# Altium schematic symbol library STM8S103F3P6.SchLib: 2 symbols
Pins are listed as number, name and electrical type; pins without a type are passive.

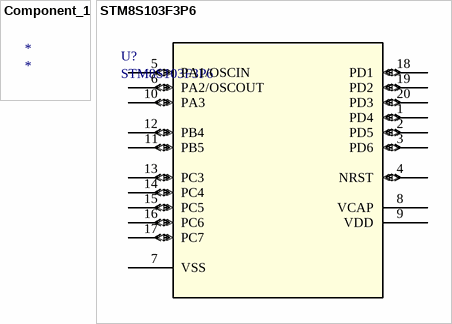
[diagram p0: symbols Component_1 to STM8S103F3P6]

## Component_1
designator *

## STM8S103F3P6
designator U?
No Description Available; Mfr_Name: STMicroelectronics; Copyright: Copyright (C) 2022 Ultra Librarian. All rights reserved.; Manufacturer_Part_Number: STM8S103F3P6; RefDes: RefDes; Type: DEV
footprint TSSOP20
pins: 1 PD4 (io), 2 PD5 (io), 3 PD6 (io), 4 NRST (io), 5 PA1/OSCIN (io), 6 PA2/OSCOUT (io), 7 VSS (power), 8 VCAP (power), 9 VDD (power), 10 PA3 (io), 11 PB5 (io), 12 PB4 (io), 13 PC3 (io), 14 PC4 (io), 15 PC5 (io), 16 PC6 (io), 17 PC7 (io), 18 PD1 (io), 19 PD2 (io), 20 PD3 (io)